# Altium footprint library CONN_B2B.PcbLib: 36 footprints (part 1 of 3)
Each footprint in its own frame and in the unit in brackets; x right, y up, seen from the top. Pads: shape width x height; smd on the part's side, far side on the other; paste and mask are expansions set on the pad; w line width, h text height; cw(c..) or ccw(c..) is an arc to the next point about the centre after c.
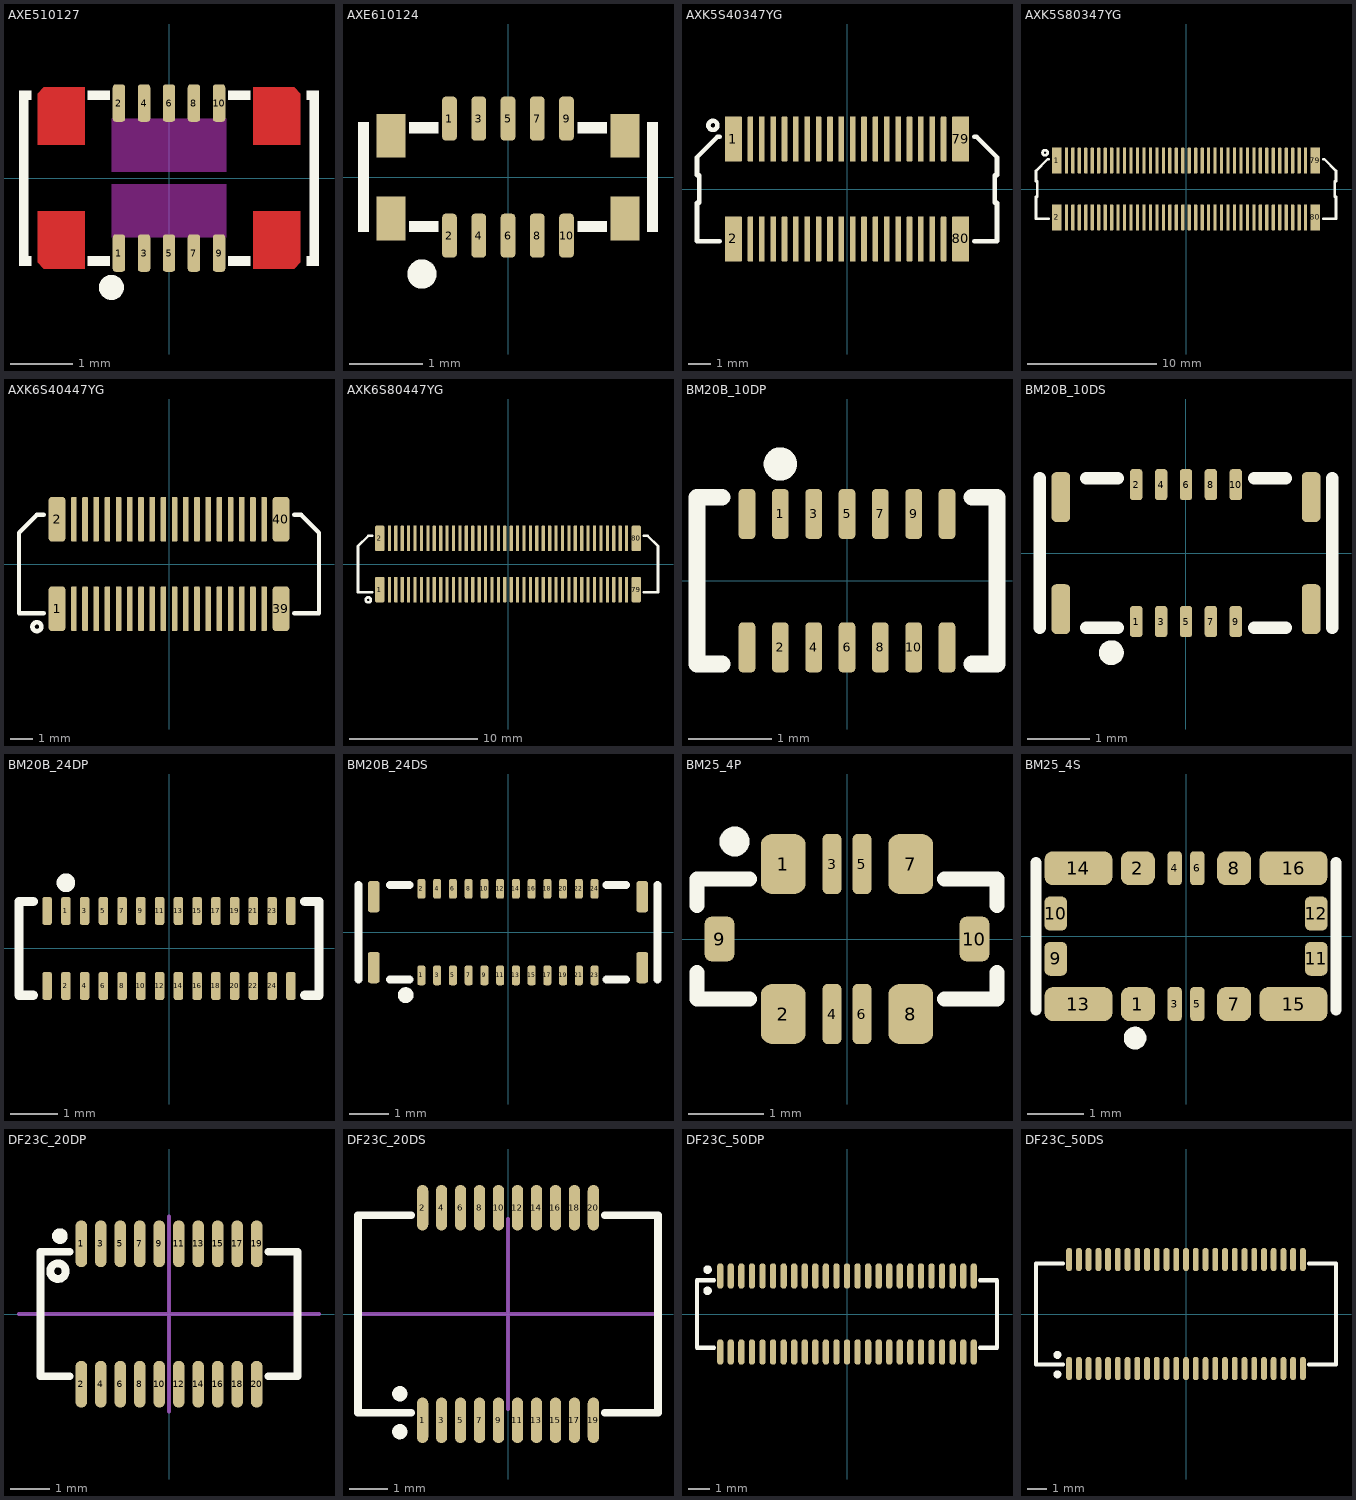
[diagram p0: the footprints below, top view; thin cyan lines are the x and y axes]

## AXE510127 [mm] "AXE510127 Panasonic, 10WAY pitch: 0.4mm"
pads (10):
  rrect50% 0.2x0.6 smd paste-0.1 mask+0.05: 1(-0.8,-1.2) 2(-0.8,1.2) 3(-0.4,-1.2) 4(-0.4,1.2) 5(0,-1.2) 6(0,1.2) 7(0.4,-1.2) 8(0.4,1.2) 9(0.8,-1.2) 10(0.8,1.2)
Top Layer:
  region: -1.35,-1.45 -2,-1.45 -2.1,-1.35 -2.1,-0.53 -1.35,-0.53
  region: -1.35,1.45 -2,1.45 -2.1,1.35 -2.1,0.53 -1.35,0.53
  region: 1.35,-1.45 2,-1.45 2.1,-1.35 2.1,-0.53 1.35,-0.53
  region: 1.35,1.45 2,1.45 2.1,1.35 2.1,0.53 1.35,0.53
Top Overlay:
  circle w0.2: c-0.92,-1.75 r0.1
  region: 0.95,-1.4 0.95,-1.25 1.3,-1.25 1.3,-1.4
  region: 0.95,1.4 0.95,1.25 1.3,1.25 1.3,1.4
  region: 2.2,1.25 2.2,1.4 2.4,1.4 2.4,-1.4 2.2,-1.4 2.2,-1.25 2.25,-1.25 2.25,1.25
  region: -0.95,-1.4 -0.95,-1.25 -1.3,-1.25 -1.3,-1.4
  region: -0.95,1.4 -0.95,1.25 -1.3,1.25 -1.3,1.4
  region: -2.2,1.25 -2.2,1.4 -2.4,1.4 -2.4,-1.4 -2.2,-1.4 -2.2,-1.25 -2.25,-1.25 -2.25,1.25
Top Paste:
  region: -0.7,-1.402 -0.901,-1.402 -0.901,-1 -0.7,-1
  region: -0.3,-1.401 -0.5,-1.401 -0.5,-1 -0.3,-1
  region: 0.9,-1.403 0.701,-1.403 0.701,-1 0.9,-1
  region: 0.5,-1.401 0.3,-1.401 0.3,-1 0.5,-1
  region: 0.1,-1.402 -0.1,-1.402 -0.1,-1 0.1,-1
  region: -0.7,1 -0.9,1 -0.9,1.4 -0.7,1.4
  region: -0.3,1.001 -0.501,1.001 -0.501,1.4 -0.3,1.4
  region: 0.9,1.001 0.7,1.001 0.7,1.4 0.9,1.4
  region: 0.5,1.001 0.3,1.001 0.3,1.4 0.5,1.4
  region: 0.1,1.002 -0.1,1.002 -0.1,1.4 0.1,1.4
  region: -1.45,-1.45 -1.9,-1.45 -2,-1.35 -2,-0.8 -1.45,-0.8
  region: -1.45,1.45 -1.9,1.45 -2,1.35 -2,0.8 -1.45,0.8
  region: 1.45,-1.45 1.9,-1.45 2,-1.35 2,-0.8 1.45,-0.8
  region: 1.45,1.45 1.9,1.45 2,1.35 2,0.8 1.45,0.8
Keep-Out Layer:
  region: 0.915,-0.95 -0.915,-0.95 -0.915,-0.1 0.915,-0.1
  region: 0.915,0.1 -0.916,0.1 -0.916,0.95 0.915,0.95
3D body "axe510127.step": height 0.77, standoff 0, extent -2.25,-1.25 2.25,1.25

## AXE610124 [mm] "AXE610124 Panasonic, 10WAY pitch: 0.4mm"
pads (14):
  rrect50% 0.2x0.6 smd mask+0.05: 1(-0.8,0.8) 2(-0.8,-0.8) 3(-0.4,0.8) 4(-0.4,-0.8) 5(0,0.8) 6(0,-0.8) 7(0.4,0.8) 8(0.4,-0.8) 9(0.8,0.8) 10(0.8,-0.8)
  rect 0.4x0.6 smd mask+0.05: ""(-1.6,-0.565) ""(-1.6,0.565) ""(1.6,-0.565) ""(1.6,0.565)
Top Overlay:
  circle w0.2: c-1.175,-1.325 r0.1
  region: 0.95,-0.6 0.95,-0.75 1.35,-0.75 1.35,-0.6
  region: 1.9,0.75 2.05,0.75 2.05,-0.75 1.9,-0.75
  region: 0.95,0.6 0.95,0.75 1.35,0.75 1.35,0.6
  region: -0.95,-0.6 -0.95,-0.75 -1.35,-0.75 -1.35,-0.6
  region: -1.9,0.75 -2.05,0.75 -2.05,-0.75 -1.9,-0.75
  region: -0.95,0.6 -0.95,0.75 -1.35,0.75 -1.35,0.6
3D body "AXE610124.STEP": height 0.65, standoff 0, extent -1.9,-1 1.9,1

## AXK5S40347YG [mm] "CONN B2B SOCKET, 0.5mm pitch"
height 6.25
pads (40):
  rrect13% 0.75x2 smd paste-2 mask+0.05: 1(-5,2.2) 2(-5,-2.2) 79(5,2.2) 80(5,-2.2)
  rrect40% 0.25x2 smd paste-2 mask+0.05: 3(-4.25,2.2) 4(-4.25,-2.2) 5(-3.75,2.2) 6(-3.75,-2.2) 7(-3.25,2.2) 8(-3.25,-2.2) 9(-2.75,2.2) 10(-2.75,-2.2) 11(-2.25,2.2) 12(-2.25,-2.2) 13(-1.75,2.2) 14(-1.75,-2.2) 15(-1.25,2.2) 16(-1.25,-2.2) 17(-0.75,2.2) 18(-0.75,-2.2) 19(-0.25,2.2) 20(-0.25,-2.2) 21(0.25,2.2) 22(0.25,-2.2) 23(0.75,2.2) 24(0.75,-2.2) 25(1.25,2.2) 26(1.25,-2.2) 27(1.75,2.2) 28(1.75,-2.2) 29(2.25,2.2) 30(2.25,-2.2) 31(2.75,2.2) 32(2.75,-2.2) 33(3.25,2.2) 34(3.25,-2.2) 35(3.75,2.2) 36(3.75,-2.2) 37(4.25,2.2) 38(4.25,-2.2)
Top Overlay:
  circle w0.2: c-5.9,2.8 r0.2
  lines w0.2: -5.6,-2.3 -6.6,-2.3 -6.6,-0.6 -6.5,-0.6 -6.5,0.6 -6.6,0.6 -6.6,1.4 -5.7,2.3 -5.6,2.3 ; 5.6,-2.3 6.6,-2.3 6.6,-0.6 6.5,-0.6 6.5,0.6 6.6,0.6 6.6,1.4 5.7,2.3 5.6,2.3
Top Paste:
  rectangle: -4.985,-3.2 -4.635,-1.9
  rectangle: -4.365,-3.2 -4.135,-1.9
  rectangle: -3.865,-3.2 -3.635,-1.9
  rectangle: -3.365,-3.2 -3.135,-1.9
  rectangle: -2.865,-3.2 -2.635,-1.9
  rectangle: -1.865,-3.2 -1.635,-1.9
  rectangle: -2.365,-3.2 -2.135,-1.9
  rectangle: -1.365,-3.2 -1.135,-1.9
  rectangle: -0.865,-3.2 -0.635,-1.9
  rectangle: -0.365,-3.2 -0.135,-1.9
  rectangle: 0.135,-3.2 0.365,-1.9
  rectangle: 0.635,-3.2 0.865,-1.9
  rectangle: 1.135,-3.2 1.365,-1.9
  rectangle: 1.635,-3.2 1.865,-1.9
  rectangle: 2.135,-3.2 2.365,-1.9
  rectangle: 2.635,-3.2 2.865,-1.9
  rectangle: 3.135,-3.2 3.365,-1.9
  rectangle: 3.635,-3.2 3.865,-1.9
  rectangle: 4.135,-3.2 4.365,-1.9
  rectangle: 4.135,1.9 4.365,3.2
  rectangle: 3.635,1.9 3.865,3.2
  rectangle: 3.135,1.9 3.365,3.2
  rectangle: 2.635,1.9 2.865,3.2
  rectangle: 2.135,1.9 2.365,3.2
  rectangle: 1.635,1.9 1.865,3.2
  rectangle: 1.135,1.9 1.365,3.2
  rectangle: 0.635,1.9 0.865,3.2
  rectangle: 0.135,1.9 0.365,3.2
  rectangle: -0.365,1.9 -0.135,3.2
  rectangle: -0.865,1.9 -0.635,3.2
  rectangle: -1.365,1.9 -1.135,3.2
  rectangle: -2.365,1.9 -2.135,3.2
  rectangle: -1.865,1.9 -1.635,3.2
  rectangle: -2.865,1.9 -2.635,3.2
  rectangle: -3.365,1.9 -3.135,3.2
  rectangle: -3.865,1.9 -3.635,3.2
  rectangle: -4.365,1.9 -4.135,3.2
  rectangle: -4.985,1.9 -4.635,3.2
  rectangle: 4.635,-3.2 4.985,-1.9
  rectangle: 4.635,1.9 4.985,3.2
3D body "axk5s40347y.stp": height 6.05, standoff 0, extent -6.6,-2.7 6.6,2.7

## AXK5S80347YG [mm] "CONN B2B SOCKET, 0.5mm pitch"
height 6.25
pads (80):
  rrect13% 0.75x2 smd paste-2 mask+0.05: 1(-10,2.2) 2(-10,-2.2) 79(10,2.2) 80(10,-2.2)
  rrect40% 0.25x2 smd paste-2 mask+0.05: 3(-9.25,2.2) 4(-9.25,-2.2) 5(-8.75,2.2) 6(-8.75,-2.2) 7(-8.25,2.2) 8(-8.25,-2.2) 9(-7.75,2.2) 10(-7.75,-2.2) 11(-7.25,2.2) 12(-7.25,-2.2) 13(-6.75,2.2) 14(-6.75,-2.2) 15(-6.25,2.2) 16(-6.25,-2.2) 17(-5.75,2.2) 18(-5.75,-2.2) 19(-5.25,2.2) 20(-5.25,-2.2) 21(-4.75,2.2) 22(-4.75,-2.2) 23(-4.25,2.2) 24(-4.25,-2.2) 25(-3.75,2.2) 26(-3.75,-2.2) 27(-3.25,2.2) 28(-3.25,-2.2) 29(-2.75,2.2) 30(-2.75,-2.2) 31(-2.25,2.2) 32(-2.25,-2.2) 33(-1.75,2.2) 34(-1.75,-2.2) 35(-1.25,2.2) 36(-1.25,-2.2) 37(-0.75,2.2) 38(-0.75,-2.2) 39(-0.25,2.2) 40(-0.25,-2.2) 41(0.25,2.2) 42(0.25,-2.2) 43(0.75,2.2) 44(0.75,-2.2) 45(1.25,2.2) 46(1.25,-2.2) 47(1.75,2.2) 48(1.75,-2.2) 49(2.25,2.2) 50(2.25,-2.2) 51(2.75,2.2) 52(2.75,-2.2) 53(3.25,2.2) 54(3.25,-2.2) 55(3.75,2.2) 56(3.75,-2.2) 57(4.25,2.2) 58(4.25,-2.2) 59(4.75,2.2) 60(4.75,-2.2) 61(5.25,2.2) 62(5.25,-2.2) 63(5.75,2.2) 64(5.75,-2.2) 65(6.25,2.2) 66(6.25,-2.2) 67(6.75,2.2) 68(6.75,-2.2) 69(7.25,2.2) 70(7.25,-2.2) 71(7.75,2.2) 72(7.75,-2.2) 73(8.25,2.2) 74(8.25,-2.2) 75(8.75,2.2) 76(8.75,-2.2) 77(9.25,2.2) 78(9.25,-2.2)
Top Overlay:
  circle w0.2: c-10.9,2.8 r0.2
  lines w0.2: -10.6,-2.3 -11.6,-2.3 -11.6,-0.6 -11.5,-0.6 -11.5,0.6 -11.6,0.6 -11.6,1.4 -10.7,2.3 -10.6,2.3 ; 10.6,-2.3 11.6,-2.3 11.6,-0.6 11.5,-0.6 11.5,0.6 11.6,0.6 11.6,1.4 10.7,2.3 10.6,2.3
Top Paste:
  rectangle: -9.985,1.9 -9.635,3.2
  rectangle: -9.365,1.9 -9.135,3.2
  rectangle: -8.865,1.9 -8.635,3.2
  rectangle: -8.365,1.9 -8.135,3.2
  rectangle: -7.865,1.9 -7.635,3.2
  rectangle: 9.635,1.9 9.985,3.2
  rectangle: -6.865,1.9 -6.635,3.2
  rectangle: -7.365,1.9 -7.135,3.2
  rectangle: -6.365,1.9 -6.135,3.2
  rectangle: -5.865,1.9 -5.635,3.2
  rectangle: -5.365,1.9 -5.135,3.2
  rectangle: -4.865,1.9 -4.635,3.2
  rectangle: -4.365,1.9 -4.135,3.2
  rectangle: -3.865,1.9 -3.635,3.2
  rectangle: -3.365,1.9 -3.135,3.2
  rectangle: -2.865,1.9 -2.635,3.2
  rectangle: -2.365,1.9 -2.135,3.2
  rectangle: -1.865,1.9 -1.635,3.2
  rectangle: -1.365,1.9 -1.135,3.2
  rectangle: -0.865,1.9 -0.635,3.2
  rectangle: -0.365,1.9 -0.135,3.2
  rectangle: 0.135,1.9 0.365,3.2
  rectangle: 0.635,1.9 0.865,3.2
  rectangle: 1.135,1.9 1.365,3.2
  rectangle: 1.635,1.9 1.865,3.2
  rectangle: 2.135,1.9 2.365,3.2
  rectangle: 2.635,1.9 2.865,3.2
  rectangle: 3.135,1.9 3.365,3.2
  rectangle: 3.635,1.9 3.865,3.2
  rectangle: 4.135,1.9 4.365,3.2
  rectangle: 4.635,1.9 4.865,3.2
  rectangle: 5.135,1.9 5.365,3.2
  rectangle: 5.635,1.9 5.865,3.2
  rectangle: 6.135,1.9 6.365,3.2
  rectangle: 6.635,1.9 6.865,3.2
  rectangle: 7.135,1.9 7.365,3.2
  rectangle: 7.635,1.9 7.865,3.2
  rectangle: 8.135,1.9 8.365,3.2
  rectangle: 8.635,1.9 8.865,3.2
  rectangle: 9.135,1.9 9.365,3.2
  rectangle: 9.135,-3.2 9.365,-1.9
  rectangle: 8.635,-3.2 8.865,-1.9
  rectangle: 8.135,-3.2 8.365,-1.9
  rectangle: 7.635,-3.2 7.865,-1.9
  rectangle: 7.135,-3.2 7.365,-1.9
  rectangle: 6.635,-3.2 6.865,-1.9
  rectangle: 6.135,-3.2 6.365,-1.9
  rectangle: 5.635,-3.2 5.865,-1.9
  rectangle: 5.135,-3.2 5.365,-1.9
  rectangle: 4.635,-3.2 4.865,-1.9
  rectangle: 4.135,-3.2 4.365,-1.9
  rectangle: 3.635,-3.2 3.865,-1.9
  rectangle: 3.135,-3.2 3.365,-1.9
  rectangle: 2.635,-3.2 2.865,-1.9
  rectangle: 2.135,-3.2 2.365,-1.9
  rectangle: 1.635,-3.2 1.865,-1.9
  rectangle: 1.135,-3.2 1.365,-1.9
  rectangle: 0.635,-3.2 0.865,-1.9
  rectangle: 0.135,-3.2 0.365,-1.9
  rectangle: -0.365,-3.2 -0.135,-1.9
  rectangle: -0.865,-3.2 -0.635,-1.9
  rectangle: -1.365,-3.2 -1.135,-1.9
  rectangle: -1.865,-3.2 -1.635,-1.9
  rectangle: -2.365,-3.2 -2.135,-1.9
  rectangle: -2.865,-3.2 -2.635,-1.9
  rectangle: -3.365,-3.2 -3.135,-1.9
  rectangle: -3.865,-3.2 -3.635,-1.9
  rectangle: -4.365,-3.2 -4.135,-1.9
  rectangle: -4.865,-3.2 -4.635,-1.9
  rectangle: -5.365,-3.2 -5.135,-1.9
  rectangle: -5.865,-3.2 -5.635,-1.9
  rectangle: -6.365,-3.2 -6.135,-1.9
  rectangle: -7.365,-3.2 -7.135,-1.9
  rectangle: -6.865,-3.2 -6.635,-1.9
  rectangle: 9.635,-3.2 9.985,-1.9
  rectangle: -7.865,-3.2 -7.635,-1.9
  rectangle: -8.365,-3.2 -8.135,-1.9
  rectangle: -8.865,-3.2 -8.635,-1.9
  rectangle: -9.365,-3.2 -9.135,-1.9
  rectangle: -9.985,-3.2 -9.635,-1.9
3D body "AXK5S80347Y.stp": height 6.05, standoff 0, extent -11.6,-2.7 11.6,2.7

## AXK6S40447YG [mm] "CONN B2B HEADER, 0.5mm pitch"
height 1.65
pads (40):
  rrect40% 0.75x2 smd paste-1000 mask+0.05: 1(-5,-2) 2(-5,2) 39(5,-2) 40(5,2)
  rrect40% 0.25x2 smd paste-0.125 mask+0.05: 3(-4.25,-2) 4(-4.25,2) 5(-3.75,-2) 6(-3.75,2) 7(-3.25,-2) 8(-3.25,2) 9(-2.75,-2) 10(-2.75,2) 11(-2.25,-2) 12(-2.25,2) 13(-1.75,-2) 14(-1.75,2) 15(-1.25,-2) 16(-1.25,2) 17(-0.75,-2) 18(-0.75,2) 19(-0.25,-2) 20(-0.25,2) 21(0.25,-2) 22(0.25,2) 23(0.75,-2) 24(0.75,2) 25(1.25,-2) 26(1.25,2) 27(1.75,-2) 28(1.75,2) 29(2.25,-2) 30(2.25,2) 31(2.75,-2) 32(2.75,2) 33(3.25,-2) 34(3.25,2) 35(3.75,-2) 36(3.75,2) 37(4.25,-2) 38(4.25,2)
Top Overlay:
  circle w0.2: c-5.9,-2.8 r0.2
  lines w0.2: -5.6,-2.2 -6.7,-2.2 -6.7,1.4 -5.9,2.2 -5.6,2.2 ; 5.6,-2.2 6.7,-2.2 6.7,1.4 5.9,2.2 5.6,2.2
Top Paste:
  region: 4.985,-1.6 4.635,-1.6 4.635,-2.9 4.985,-2.9
  rectangle: -4.985,-2.9 -4.635,-1.6
  rectangle: -4.365,-2.9 -4.135,-1.6
  rectangle: -3.865,-2.9 -3.635,-1.6
  rectangle: -3.365,-2.9 -3.135,-1.6
  rectangle: -2.865,-2.9 -2.635,-1.6
  rectangle: -1.865,-2.9 -1.635,-1.6
  rectangle: -2.365,-2.9 -2.135,-1.6
  rectangle: -1.365,-2.9 -1.135,-1.6
  rectangle: -0.865,-2.9 -0.635,-1.6
  rectangle: -0.365,-2.9 -0.135,-1.6
  rectangle: 0.135,-2.9 0.365,-1.6
  rectangle: 0.635,-2.9 0.865,-1.6
  rectangle: 1.135,-2.9 1.365,-1.6
  rectangle: 1.635,-2.9 1.865,-1.6
  rectangle: 2.135,-2.9 2.365,-1.6
  rectangle: 2.635,-2.9 2.865,-1.6
  rectangle: 3.135,-2.9 3.365,-1.6
  rectangle: 3.635,-2.9 3.865,-1.6
  rectangle: 4.135,-2.9 4.365,-1.6
  region: 4.985,2.9 4.635,2.9 4.635,1.6 4.985,1.6
  rectangle: -4.985,1.6 -4.635,2.9
  rectangle: -4.365,1.6 -4.135,2.9
  rectangle: -3.865,1.6 -3.635,2.9
  rectangle: -3.365,1.6 -3.135,2.9
  rectangle: -2.865,1.6 -2.635,2.9
  rectangle: -1.865,1.6 -1.635,2.9
  rectangle: -2.365,1.6 -2.135,2.9
  rectangle: -1.365,1.6 -1.135,2.9
  rectangle: -0.865,1.6 -0.635,2.9
  rectangle: -0.365,1.6 -0.135,2.9
  rectangle: 0.135,1.6 0.365,2.9
  rectangle: 0.635,1.6 0.865,2.9
  rectangle: 1.135,1.6 1.365,2.9
  rectangle: 1.635,1.6 1.865,2.9
  rectangle: 2.135,1.6 2.365,2.9
  rectangle: 2.635,1.6 2.865,2.9
  rectangle: 3.135,1.6 3.365,2.9
  rectangle: 3.635,1.6 3.865,2.9
  rectangle: 4.135,1.6 4.365,2.9
3D body "axk6s40447y.stp": height 3.3, standoff 0, extent -6.6,-2.5 6.6,2.5

## AXK6S80447YG [mm] "CONN B2B HEADER, 0.5mm pitch"
height 1.65
pads (80):
  rrect40% 0.75x2 smd paste-1000 mask+0.05: 1(-10,-2) 2(-10,2) 79(10,-2) 80(10,2)
  rrect40% 0.25x2 smd paste-1000 mask+0.05: 3(-9.25,-2) 4(-9.25,2) 5(-8.75,-2) 6(-8.75,2) 7(-8.25,-2) 8(-8.25,2) 9(-7.75,-2) 10(-7.75,2) 11(-7.25,-2) 12(-7.25,2) 13(-6.75,-2) 14(-6.75,2) 15(-6.25,-2) 16(-6.25,2) 17(-5.75,-2) 18(-5.75,2) 19(-5.25,-2) 20(-5.25,2) 21(-4.75,-2) 22(-4.75,2) 23(-4.25,-2) 24(-4.25,2) 25(-3.75,-2) 26(-3.75,2) 27(-3.25,-2) 28(-3.25,2) 29(-2.75,-2) 30(-2.75,2) 31(-2.25,-2) 32(-2.25,2) 33(-1.75,-2) 34(-1.75,2) 35(-1.25,-2) 36(-1.25,2) 37(-0.75,-2) 38(-0.75,2) 39(-0.25,-2) 40(-0.25,2) 41(0.25,-2) 42(0.25,2) 43(0.75,-2) 44(0.75,2) 45(1.25,-2) 46(1.25,2) 47(1.75,-2) 48(1.75,2) 49(2.25,-2) 50(2.25,2) 51(2.75,-2) 52(2.75,2) 53(3.25,-2) 54(3.25,2) 55(3.75,-2) 56(3.75,2) 57(4.25,-2) 58(4.25,2) 59(4.75,-2) 60(4.75,2) 61(5.25,-2) 62(5.25,2) 63(5.75,-2) 64(5.75,2) 65(6.25,-2) 66(6.25,2) 67(6.75,-2) 68(6.75,2) 69(7.25,-2) 70(7.25,2) 71(7.75,-2) 72(7.75,2) 73(8.25,-2) 74(8.25,2) 75(8.75,-2) 76(8.75,2) 77(9.25,-2) 78(9.25,2)
Top Overlay:
  circle w0.2: c-10.9,-2.8 r0.2
  lines w0.2: -10.6,-2.2 -11.7,-2.2 -11.7,1.4 -10.9,2.2 -10.6,2.2 ; 10.6,-2.2 11.7,-2.2 11.7,1.4 10.9,2.2 10.6,2.2
Top Paste:
  rectangle: -9.985,-2.9 -9.635,-1.6
  rectangle: -9.365,-2.9 -9.135,-1.6
  rectangle: -8.865,-2.9 -8.635,-1.6
  rectangle: -8.365,-2.9 -8.135,-1.6
  rectangle: -7.865,-2.9 -7.635,-1.6
  rectangle: 9.635,-2.9 9.985,-1.6
  rectangle: -6.865,-2.9 -6.635,-1.6
  rectangle: -7.365,-2.9 -7.135,-1.6
  rectangle: -6.365,-2.9 -6.135,-1.6
  rectangle: -5.865,-2.9 -5.635,-1.6
  rectangle: -5.365,-2.9 -5.135,-1.6
  rectangle: -4.865,-2.9 -4.635,-1.6
  rectangle: -4.365,-2.9 -4.135,-1.6
  rectangle: -3.865,-2.9 -3.635,-1.6
  rectangle: -3.365,-2.9 -3.135,-1.6
  rectangle: -2.865,-2.9 -2.635,-1.6
  rectangle: -2.365,-2.9 -2.135,-1.6
  rectangle: -1.865,-2.9 -1.635,-1.6
  rectangle: -1.365,-2.9 -1.135,-1.6
  rectangle: -0.865,-2.9 -0.635,-1.6
  rectangle: -0.365,-2.9 -0.135,-1.6
  rectangle: 0.135,-2.9 0.365,-1.6
  rectangle: 0.635,-2.9 0.865,-1.6
  rectangle: 1.135,-2.9 1.365,-1.6
  rectangle: 1.635,-2.9 1.865,-1.6
  rectangle: 2.135,-2.9 2.365,-1.6
  rectangle: 2.635,-2.9 2.865,-1.6
  rectangle: 3.135,-2.9 3.365,-1.6
  rectangle: 3.635,-2.9 3.865,-1.6
  rectangle: 4.135,-2.9 4.365,-1.6
  rectangle: 4.635,-2.9 4.865,-1.6
  rectangle: 5.135,-2.9 5.365,-1.6
  rectangle: 5.635,-2.9 5.865,-1.6
  rectangle: 6.135,-2.9 6.365,-1.6
  rectangle: 6.635,-2.9 6.865,-1.6
  rectangle: 7.135,-2.9 7.365,-1.6
  rectangle: 7.635,-2.9 7.865,-1.6
  rectangle: 8.135,-2.9 8.365,-1.6
  rectangle: 8.635,-2.9 8.865,-1.6
  rectangle: 9.135,-2.9 9.365,-1.6
  rectangle: -9.985,1.6 -9.635,2.9
  rectangle: -9.365,1.6 -9.135,2.9
  rectangle: -8.865,1.6 -8.635,2.9
  rectangle: -8.365,1.6 -8.135,2.9
  rectangle: -7.865,1.6 -7.635,2.9
  rectangle: 9.635,1.6 9.985,2.9
  rectangle: -6.865,1.6 -6.635,2.9
  rectangle: -7.365,1.6 -7.135,2.9
  rectangle: -6.365,1.6 -6.135,2.9
  rectangle: -5.865,1.6 -5.635,2.9
  rectangle: -5.365,1.6 -5.135,2.9
  rectangle: -4.865,1.6 -4.635,2.9
  rectangle: -4.365,1.6 -4.135,2.9
  rectangle: -3.865,1.6 -3.635,2.9
  rectangle: -3.365,1.6 -3.135,2.9
  rectangle: -2.865,1.6 -2.635,2.9
  rectangle: -2.365,1.6 -2.135,2.9
  rectangle: -1.865,1.6 -1.635,2.9
  rectangle: -1.365,1.6 -1.135,2.9
  rectangle: -0.865,1.6 -0.635,2.9
  rectangle: -0.365,1.6 -0.135,2.9
  rectangle: 0.135,1.6 0.365,2.9
  rectangle: 0.635,1.6 0.865,2.9
  rectangle: 1.135,1.6 1.365,2.9
  rectangle: 1.635,1.6 1.865,2.9
  rectangle: 2.135,1.6 2.365,2.9
  rectangle: 2.635,1.6 2.865,2.9
  rectangle: 3.135,1.6 3.365,2.9
  rectangle: 3.635,1.6 3.865,2.9
  rectangle: 4.135,1.6 4.365,2.9
  rectangle: 4.635,1.6 4.865,2.9
  rectangle: 5.135,1.6 5.365,2.9
  rectangle: 5.635,1.6 5.865,2.9
  rectangle: 6.135,1.6 6.365,2.9
  rectangle: 6.635,1.6 6.865,2.9
  rectangle: 7.135,1.6 7.365,2.9
  rectangle: 7.635,1.6 7.865,2.9
  rectangle: 8.135,1.6 8.365,2.9
  rectangle: 8.635,1.6 8.865,2.9
  rectangle: 9.135,1.6 9.365,2.9
3D body "Conn_AXK6S80447Y_HDR80.STEP": height 3.3, standoff 0, extent -11.6,-2.5 11.6,2.5

## BM20B_10DP [mm] "Hirose Connector BM20B(0.8)-10DP-0.4V(51) 10WAY pitch: 0.4mm"
height 0.8
pads (14):
  rrect50% 0.2x0.6 smd mask+0.05: 1(-0.8,0.8) 2(-0.8,-0.8) 3(-0.4,0.8) 4(-0.4,-0.8) 5(0,0.8) 6(0,-0.8) 7(0.4,0.8) 8(0.4,-0.8) 9(0.8,0.8) 10(0.8,-0.8) ""(-1.2,-0.8) ""(-1.2,0.8) ""(1.2,-0.8) ""(1.2,0.8)
Top Overlay:
  circle w0.2: c-0.8,1.4 r0.1
  lines w0.2: -1.5,-1 -1.8,-1 -1.8,1 -1.5,1 ; 1.5,-1 1.8,-1 1.8,1 1.5,1
3D body "BM20B(0.8)-10DP-0.4V.stp": height 0.67, standoff 0.01, extent -1.7,-0.88 1.7,0.9

## BM20B_10DS [mm] "Hirose Connector BM20B(0.8)-10DS-0.4V(51) 10WAY pitch: 0.4mm"
height 0.8
pads (14):
  rrect50% 0.2x0.5 smd mask+0.05: 1(-0.8,-1.1) 2(-0.8,1.1) 3(-0.4,-1.1) 4(-0.4,1.1) 5(0,-1.1) 6(0,1.1) 7(0.4,-1.1) 8(0.4,1.1) 9(0.8,-1.1) 10(0.8,1.1)
  rrect50% 0.3x0.8 smd mask+0.05: ""(-2.01,-0.9) ""(-2.01,0.9) ""(2.01,-0.9) ""(2.01,0.9)
Top Overlay:
  circle w0.2: c-1.2,-1.6 r0.1
  lines w0.2: -2.35,-1.2 -2.35,1.2 ; -1.6,-1.2 -1.1,-1.2 ; -1.6,1.2 -1.1,1.2 ; 1.1,-1.2 1.6,-1.2 ; 1.1,1.2 1.6,1.2 ; 2.35,-1.2 2.35,1.2
3D body "BM20B(0.8)-10DS-0.4V.stp": height 0.79, standoff -0.01, extent -2.23,-1.15 2.25,1.15

## BM20B_24DP [mm] "Hirose Connector BM20B(0.8)-24DP-0.4V(51) 24WAY pitch: 0.4mm"
height 0.8
pads (28):
  rrect50% 0.2x0.6 smd mask+0.05: 1(-2.2,0.8) 2(-2.2,-0.8) 3(-1.8,0.8) 4(-1.8,-0.8) 5(-1.4,0.8) 6(-1.4,-0.8) 7(-1,0.8) 8(-1,-0.8) 9(-0.6,0.8) 10(-0.6,-0.8) 11(-0.2,0.8) 12(-0.2,-0.8) 13(0.2,0.8) 14(0.2,-0.8) 15(0.6,0.8) 16(0.6,-0.8) 17(1,0.8) 18(1,-0.8) 19(1.4,0.8) 20(1.4,-0.8) 21(1.8,0.8) 22(1.8,-0.8) 23(2.2,0.8) 24(2.2,-0.8) ""(-2.6,-0.8) ""(-2.6,0.8) ""(2.6,-0.8) ""(2.6,0.8)
Top Overlay:
  circle w0.2: c-2.2,1.4 r0.1
  lines w0.2: -2.9,-1 -3.2,-1 -3.2,1 -2.9,1 ; 2.9,-1 3.2,-1 3.2,1 2.9,1
3D body "BM20B(0.8)-24DP-0.4V.stp": height 0.67, standoff 0.01, extent -3.1,-0.88 3.1,0.9

## BM20B_24DS [mm] "Hirose Connector BM20B(0.8)-24DS-0.4V(51) 24WAY pitch: 0.4mm"
height 0.8
pads (28):
  rrect50% 0.2x0.5 smd mask+0.05: 1(-2.2,-1.1) 2(-2.2,1.1) 3(-1.8,-1.1) 4(-1.8,1.1) 5(-1.4,-1.1) 6(-1.4,1.1) 7(-1,-1.1) 8(-1,1.1) 9(-0.6,-1.1) 10(-0.6,1.1) 11(-0.2,-1.1) 12(-0.2,1.1) 13(0.2,-1.1) 14(0.2,1.1) 15(0.6,-1.1) 16(0.6,1.1) 17(1,-1.1) 18(1,1.1) 19(1.4,-1.1) 20(1.4,1.1) 21(1.8,-1.1) 22(1.8,1.1) 23(2.2,-1.1) 24(2.2,1.1)
  rrect50% 0.3x0.8 smd mask+0.05: ""(-3.41,-0.9) ""(-3.41,0.9) ""(3.41,-0.9) ""(3.41,0.9)
Top Overlay:
  circle w0.2: c-2.6,-1.6 r0.1
  lines w0.2: -3.8,-1.2 -3.8,1.2 ; -3,-1.2 -2.5,-1.2 ; -3,1.2 -2.5,1.2 ; 2.5,-1.2 3,-1.2 ; 2.5,1.2 3,1.2 ; 3.8,-1.2 3.8,1.2
3D body "BM20B(0.8)-24DS-0.4V.stp": height 0.79, standoff -0.01, extent -3.645,-1.15 3.635,1.15

## BM25_4P [mm] "Conn B2B, for battery, Hirose BM25-4P-2-V(51)"
pads (10):
  rrect50% 0.6x0.8 smd paste-0.1 mask+0.05: 1(-0.85,1) 2(-0.85,-1) 7(0.85,1) 8(0.85,-1)
  rrect50% 0.25x0.8 smd mask+0.05: 3(-0.2,1) 4(-0.2,-1) 5(0.2,1) 6(0.2,-1)
  rrect50% 0.4x0.6 smd: 9(-1.7,0) 10(1.7,0)
Top Overlay:
  circle w0.2: c-1.5,1.3 r0.1
  lines w0.2: -2,-0.45 -2,-0.8 -1.3,-0.8 ; -2,0.45 -2,0.8 -1.3,0.8 ; 1.3,-0.8 2,-0.8 2,-0.45 ; 1.3,0.8 2,0.8 2,0.45
3D body "BM25-4P.stp": height 0.6, standoff 0, extent -1.965,-1.3 1.965,1.3

## BM25_4S [mm] "Conn B2B, for battery, Hirose BM25-4S_2-V(53)"
pads (16):
  rrect50% 0.6x0.6 smd paste-0.1 mask+0.05: 1(-0.85,-1.2) 2(-0.85,1.2) 7(0.85,-1.2) 8(0.85,1.2)
  rrect50% 0.25x0.6 smd mask+0.05: 3(-0.2,-1.2) 4(-0.2,1.2) 5(0.2,-1.2) 6(0.2,1.2)
  rrect50% 0.4x0.6 smd mask+0.05: 9(-2.3,-0.4) 10(-2.3,0.4) 11(2.3,-0.4) 12(2.3,0.4)
  rrect50% 1.2x0.6 smd paste-0.1 mask+0.05: 13(-1.9,-1.2) 14(-1.9,1.2) 15(1.9,-1.2) 16(1.9,1.2)
Top Overlay:
  circle w0.2: c-0.9,-1.8 r0.1
  lines w0.2: -2.65,-1.3 -2.65,1.3 ; 2.65,-1.3 2.65,1.3
3D body "BM25-4S.stp": height 0.7, standoff 0, extent -2.5,-1.3 2.5,1.3

## DF23C_20DP [mm] "Hirose Connector DF23C-20DP-0.5V(92) 20WAY pitch:0.5mm"
height 1.5
pads (20):
  oval 0.3x1.2 smd mask+0.075: 1(-2.25,1.8) 2(-2.25,-1.8) 3(-1.75,1.8) 4(-1.75,-1.8) 5(-1.25,1.8) 6(-1.25,-1.8) 7(-0.75,1.8) 8(-0.75,-1.8) 9(-0.25,1.8) 10(-0.25,-1.8) 11(0.25,1.8) 12(0.25,-1.8) 13(0.75,1.8) 14(0.75,-1.8) 15(1.25,1.8) 16(1.25,-1.8) 17(1.75,1.8) 18(1.75,-1.8) 19(2.25,1.8) 20(2.25,-1.8)
Top Overlay:
  circle w0.2: c-2.8,2 r0.1
  circle w0.2: c-2.85,1.1 r0.2
  lines w0.2: -2.55,-1.6 -3.3,-1.6 -3.3,1.6 -2.55,1.6 ; 2.55,-1.6 3.3,-1.6 3.3,1.6 2.55,1.6
Mechanical 13:
  lines w0.1: -3.85,0 3.85,0 ; 0,-2.5 0,2.5
3D body "DF23C-20DP-0.5V.stp": height 1.2, standoff 0, extent -3.25,-2.15 3.25,2.15

## DF23C_20DS [mm] "Hirose Connector DF23C-20DS-0.5V(51) 20WAY pitch:0.5mm"
height 1.5
pads (20):
  oval 0.3x1.2 smd mask+0.075: 1(-2.25,-2.8) 2(-2.25,2.8) 3(-1.75,-2.8) 4(-1.75,2.8) 5(-1.25,-2.8) 6(-1.25,2.8) 7(-0.75,-2.8) 8(-0.75,2.8) 9(-0.25,-2.8) 10(-0.25,2.8) 11(0.25,-2.8) 12(0.25,2.8) 13(0.75,-2.8) 14(0.75,2.8) 15(1.25,-2.8) 16(1.25,2.8) 17(1.75,-2.8) 18(1.75,2.8) 19(2.25,-2.8) 20(2.25,2.8)
Top Overlay:
  circle w0.2: c-2.85,-3.1 r0.1
  circle w0.2: c-2.85,-2.1 r0.1
  lines w0.2: -2.55,-2.6 -3.95,-2.6 -3.95,2.6 -2.55,2.6 ; 2.55,-2.6 3.95,-2.6 3.95,2.6 2.55,2.6
Mechanical 13:
  lines w0.1: -3.85,0 3.85,0 ; 0,-2.5 0,2.5
3D body "DF23C-20DS-0.5V.stp": height 1.42, standoff -0.03, extent -3.8,-3 3.8,3

## DF23C_50DP [mm] "Hirose Connector DF23C-50DP-0.5V(92) 50WAY pitch:0.5mm"
height 1.5
pads (50):
  oval 0.3x1.2 smd mask+0.075: 1(-6,1.8) 2(-6,-1.8) 3(-5.5,1.8) 4(-5.5,-1.8) 5(-5,1.8) 6(-5,-1.8) 7(-4.5,1.8) 8(-4.5,-1.8) 9(-4,1.8) 10(-4,-1.8) 11(-3.5,1.8) 12(-3.5,-1.8) 13(-3,1.8) 14(-3,-1.8) 15(-2.5,1.8) 16(-2.5,-1.8) 17(-2,1.8) 18(-2,-1.8) 19(-1.5,1.8) 20(-1.5,-1.8) 21(-1,1.8) 22(-1,-1.8) 23(-0.5,1.8) 24(-0.5,-1.8) 25(0,1.8) 26(0,-1.8) 27(0.5,1.8) 28(0.5,-1.8) 29(1,1.8) 30(1,-1.8) 31(1.5,1.8) 32(1.5,-1.8) 33(2,1.8) 34(2,-1.8) 35(2.5,1.8) 36(2.5,-1.8) 37(3,1.8) 38(3,-1.8) 39(3.5,1.8) 40(3.5,-1.8) 41(4,1.8) 42(4,-1.8) 43(4.5,1.8) 44(4.5,-1.8) 45(5,1.8) 46(5,-1.8) 47(5.5,1.8) 48(5.5,-1.8) 49(6,1.8) 50(6,-1.8)
Top Overlay:
  circle w0.2: c-6.6,1.1 r0.1
  circle w0.2: c-6.6,2.1 r0.1
  lines w0.2: -6.3,-1.6 -7.1,-1.6 -7.1,1.6 -6.3,1.6 ; 6.3,-1.6 7.1,-1.6 7.1,1.6 6.3,1.6
3D body "DF23C-50DP-0.5V.stp": height 1.2, standoff 0, extent -7,-2.15 7,2.15

## DF23C_50DS [mm] "Hirose Connector DF23C-50DS-0.5V(51) 50WAY pitch:0.5mm"
height 1.5
pads (50):
  oval 0.3x1.2 smd mask+0.075: 1(-6,-2.8) 2(-6,2.8) 3(-5.5,-2.8) 4(-5.5,2.8) 5(-5,-2.8) 6(-5,2.8) 7(-4.5,-2.8) 8(-4.5,2.8) 9(-4,-2.8) 10(-4,2.8) 11(-3.5,-2.8) 12(-3.5,2.8) 13(-3,-2.8) 14(-3,2.8) 15(-2.5,-2.8) 16(-2.5,2.8) 17(-2,-2.8) 18(-2,2.8) 19(-1.5,-2.8) 20(-1.5,2.8) 21(-1,-2.8) 22(-1,2.8) 23(-0.5,-2.8) 24(-0.5,2.8) 25(0,-2.8) 26(0,2.8) 27(0.5,-2.8) 28(0.5,2.8) 29(1,-2.8) 30(1,2.8) 31(1.5,-2.8) 32(1.5,2.8) 33(2,-2.8) 34(2,2.8) 35(2.5,-2.8) 36(2.5,2.8) 37(3,-2.8) 38(3,2.8) 39(3.5,-2.8) 40(3.5,2.8) 41(4,-2.8) 42(4,2.8) 43(4.5,-2.8) 44(4.5,2.8) 45(5,-2.8) 46(5,2.8) 47(5.5,-2.8) 48(5.5,2.8) 49(6,-2.8) 50(6,2.8)
Top Overlay:
  circle w0.2: c-6.6,-3.1 r0.1
  circle w0.2: c-6.6,-2.1 r0.1
  lines w0.2: -6.3,-2.6 -7.7,-2.6 -7.7,2.6 -6.3,2.6 ; 6.3,-2.6 7.7,-2.6 7.7,2.6 6.3,2.6
3D body "DF23C-50DS-0.5V.stp": height 1.42, standoff -0.03, extent -7.55,-3 7.55,3